# Altium schematic symbol library Practicales.SchLib: 23 symbols
Pins are listed as number, name and electrical type; pins without a type are passive.

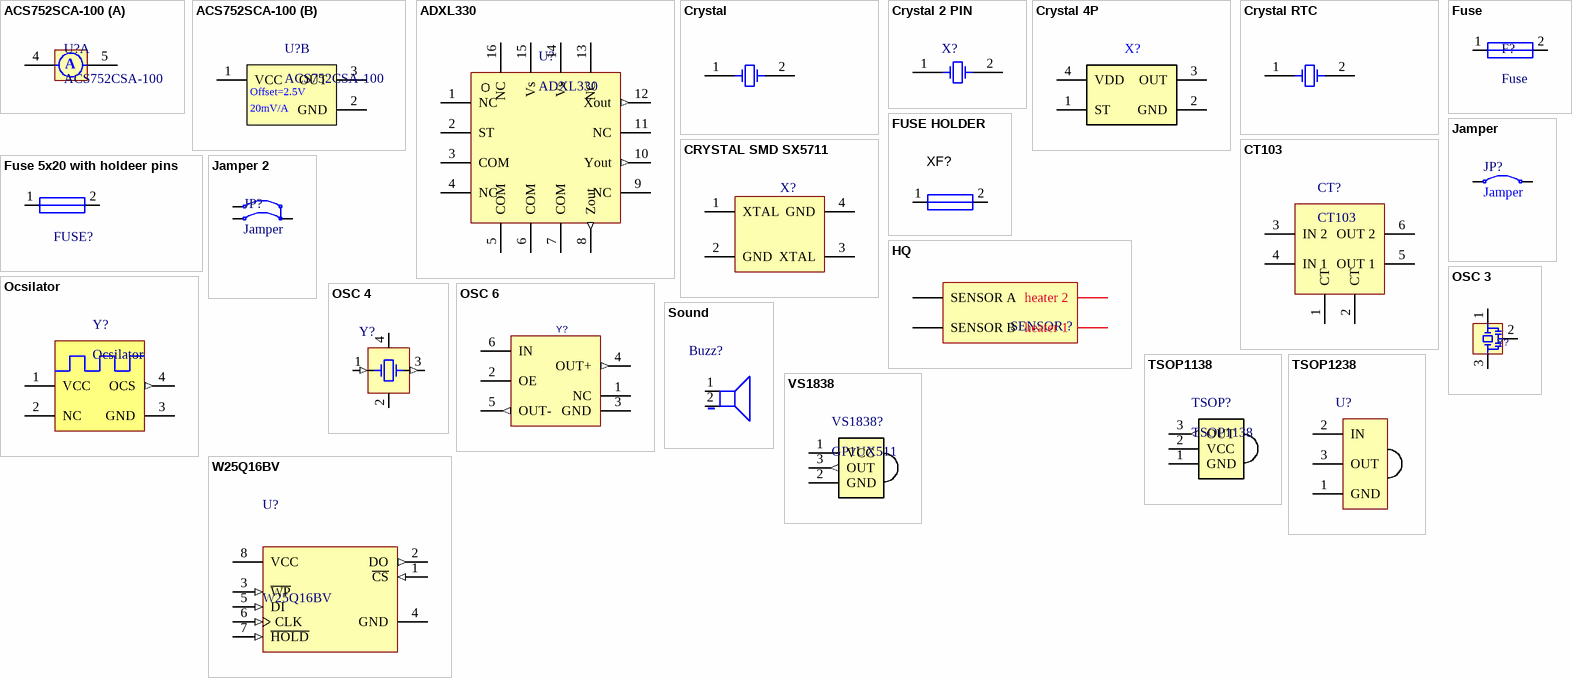
[diagram p0: symbols ACS752SCA-100 to W25Q16BV]

## ACS752SCA-100
designator U?, comment ACS752CSA-100
Current Sensor; DatasheetVersion: 2022
part A pins: 4, 5
part B pins: 1 VCC, 2 GND, 3 OUT
part A text: A
part B text: Offset=2.5V; 20mV/A

## ADXL330
designator U?
The ADXL330 is a small, thin, low power, complete 3-axis / accelerometer with signal conditioned voltage outputs, all / on a single monolithic IC. The product measures acceleration / with a minimum full-scale range of ±3 g. It can measure the / static acceleration of gravity in tilt-sensing applications, as well / as dynamic acceleration resulting from motion, shock, or / vibration. / The user selects the bandwidth of the accelerometer using the / CX, CY, and CZ capacitors at the XOUT, YOUT, and ZOUT pins. / Bandwidths can be selected to suit the application, with a / range of 0.5 Hz to 1600 Hz for X and Y axes, and a range of / 0.5 Hz to 550 Hz for the Z axis. / The ADXL330 is available in a small, low profile, 4 mm × 4 mm / × 1.45 mm, 16-lead, plastic lead frame chip scale package / (LFCSP_LQ; ANALOG DEVICE: ADXL330; DatasheetVersion: 2022
pins: 1 NC, 2 ST (power), 3 COM (power), 4 NC, 5 COM (power), 6 COM (power), 7 COM (power), 8 Zout (out), 9 NC, 10 Yout (out), 11 NC, 12 Xout (out), 13 NC, 14 Vs, 15 Vs (power), 16 NC

## Crystal
designator Y?
Crystal; DatasheetVersion: 2022
pins: 1, 2

## Crystal 2 PIN
designator X?
Crystal, 32.768KHz, 9pF, 20PPM; DatasheetVersion: 2022
pins: 1 OSC1, 2 OSC2

## Crystal 4P
designator X?  (value not drawn)
footprint SMD 2520 CRYSTAL OSCILATOR (CRYSTAL-SMD_4P-L2.5-W2.0-BL    JLCPCB)
footprint SMD 3225 Crystal Oscillator (CRYSTAL-SMD_4P-L3.2-W2.5-BL   JLCPCB)
footprint SMD 5032 Crystal Oscillator (CRYSTAL-SMD_4P-L5.0-W3.2-BL                        JLCPCB)
pins: 1 ST, 2 GND, 3 OUT, 4 VDD

## Crystal RTC
designator Y?
Crystal; DatasheetVersion: 2022
pins: 1, 2

## CRYSTAL SMD SX5711
designator X?
High frequency stability and reliability SEAM CRYSTAL; DatasheetVersion: 2022
pins: 1 XTAL, 2 GND, 3 XTAL, 4 GND

## CT103
designator CT?
DatasheetVersion: 2022
pins: 1 CT, 2 CT, 3 IN 2, 4 IN 1, 5 OUT 1, 6 OUT 2

## Fuse
designator F?
ComponentLinkp-URL: https://www.smartw.ir/; DatasheetVersion: 2022
pins: 1, 2

## Fuse 5x20 with holdeer pins
designator FUSE?
Fuses 5x20; DatasheetVersion: 2022
pins: 1, 2

## FUSE HOLDER
designator XF?
FUSE HOLDER RADIAL 250V 6.3A PCB; DatasheetVersion: 2022
pins: 1, 2

## HQ
designator SENSOR GAS, comment SENSOR ?
MQ-7 GAS SENSOR; DatasheetVersion: 2022
pins: 1 SENSOR A, 2 SENSOR B, 3 heater 1, 4 heater 2

## Jamper
designator JP?  value Jamper
Jumper Component; DatasheetVersion: 2022
pins: 1, 2
4 alternate drawings of the same symbol

## Jamper 2
designator JP?  value Jamper
Jumper Component; DatasheetVersion: 2022
pins: 1, 2, 3
4 alternate drawings of the same symbol

## Ocsilator
designator Y?
Crystal Ocsilator; DatasheetVersion: 2022
pins: 1 VCC (power), 2 NC, 3 GND (power), 4 OCS (out)

## OSC 3
designator Y?
DatasheetVersion: 2022
pins: 1 OSC1, 2, 3 OSC2

## OSC 4
designator Y?
CLOCK OSCILLATOR,; DatasheetVersion: 2022
pins: 1 E (in), 2 G (power), 3 O (out), 4 V (power)

## OSC 6
designator Y?
OSCILLATOR, DIFFERENTIAL LVDS, 100MHZ; DatasheetVersion: 2022
pins: 1 NC, 2 OE, 3 GND (power), 4 OUT+ (out), 5 OUT- (out), 6 IN (power)

## Sound
designator Buzz?
5-12v small buzzer (12mm); ComponentLinkp-URL: https://www.smartw.ir/; DatasheetVersion: 2022
pins: 1 (power), 2 (power)
text: -

## TSOP1138
designator TSOP?
IR Receiver Modules for Remote Control Systems; ComponentLinkp-URL: https://www.smartw.ir/; DatasheetVersion: 2022
pins: 1 GND (power), 2 VCC (power), 3 OUT (out)

## TSOP1238
designator U?  (value not drawn)
Right; DatasheetVersion: 2022
pins: 1 GND, 2 IN, 3 OUT

## VS1838
designator VS1838?, comment GP1UX511
VS1838; ComponentLinkp-URL: https://www.smartw.ir/; DatasheetVersion: 2022
pins: 1 VCC (power), 2 GND (power), 3 OUT (out)

## W25Q16BV
designator U?
Flash, pin, soic, flash, Memory, Semiconductors and Actives, serial, ic; DatasheetVersion: 2022
pins: 1 ~{CS} (in), 2 DO (out), 3 ~{WP} (in), 4 GND (power), 5 DI (in), 6 CLK (in), 7 ~{HOLD} (in), 8 VCC (power)